# EAGLE library part MPU-6050 (library e-Lib-Sensors)
MPU-6050 MPU-6050 Six-Axis (Gyro + Accelerometer) MEMS MotionTracking™ Devices Datasheet: MPU-6050 <https://datasheet.lcsc.com/szlcsc/1811071024_TDK-InvenSense-MPU-6050_C24112.pdf>
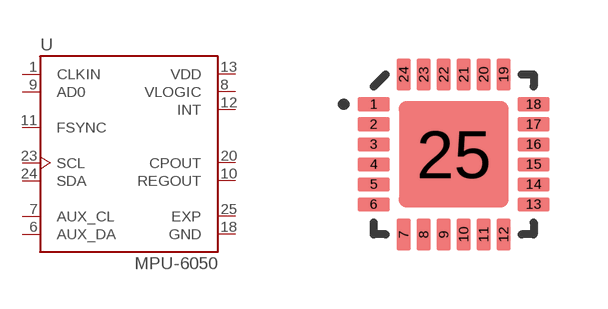
[diagram p0: symbol with the pads of QFN50P-400X400X95-25N; footprint QFN50P-400X400X95-25N]

Designator prefix U

## MPU-6050  [QFN50P-400X400X95-25N]
1  CLKIN  in
6  AUX_DA
7  AUX_CL  in
8  VLOGIC  pwr
9  AD0  in
10  REGOUT  pas
11  FSYNC  in
12  INT  out
13  VDD  pwr
18  GND  pwr
20  CPOUT  pas
23  SCL  in
24  SDA
25  EXP  pwr

## Footprint QFN50P-400X400X95-25N (pad centres in mm)
smd 0.8 x 0.35: 1 -2,1.25; 2 -2,0.75; 3 -2,0.25; 4 -2,-0.25; 5 -2,-0.75; 6 -2,-1.25; 13 2,-1.25; 14 2,-0.75; 15 2,-0.25; 16 2,0.25; 17 2,0.75; 18 2,1.25
smd 0.35 x 0.8: 7 -1.25,-2; 8 -0.75,-2; 9 -0.25,-2; 10 0.25,-2; 11 0.75,-2; 12 1.25,-2; 19 1.25,2; 20 0.75,2; 21 0.25,2; 22 -0.25,2; 23 -0.75,2; 24 -1.25,2
smd 2.75 x 2.65: 25 0,0